# EAGLE library part 78F0893_GAK_AX (library Renesas_78k0_VKarrer)
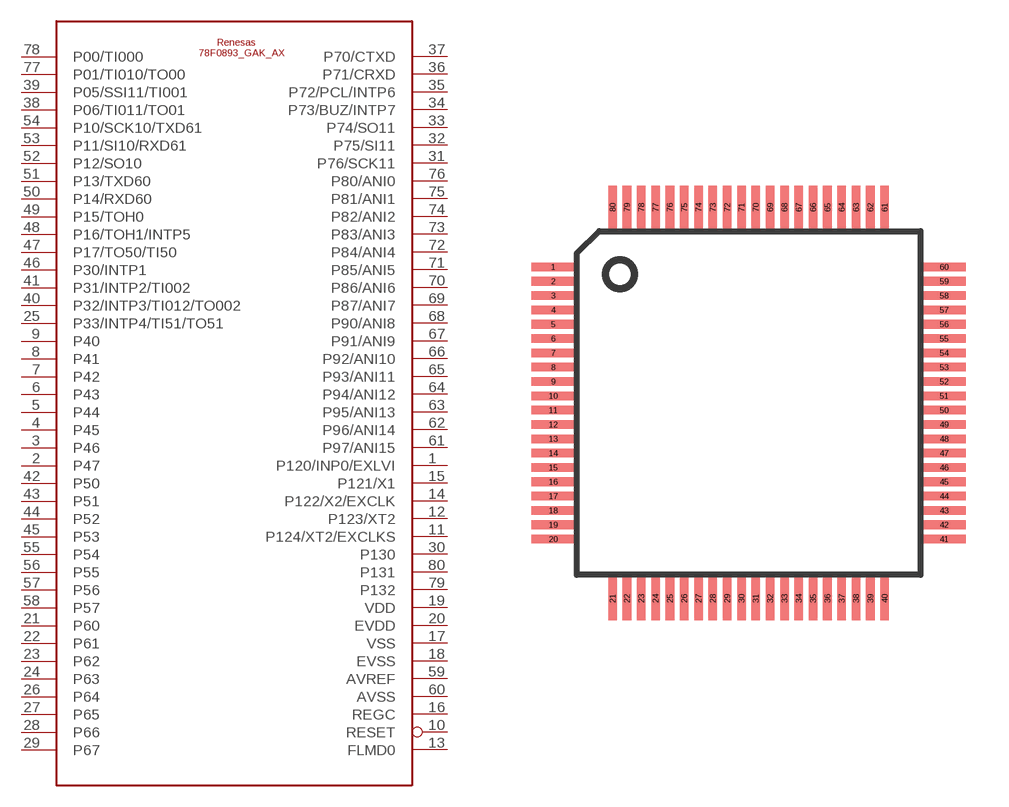
[diagram p0: symbol with the pads of LQFP80; footprint LQFP80]

Designator prefix -

## 78F0893_GAK_AX  [LQFP80]
1  P120/INP0/EXLVI
2  P47
3  P46
4  P45
5  P44
6  P43
7  P42
8  P41
9  P40
10  RESET
11  P124/XT2/EXCLKS
12  P123/XT2
13  FLMD0
14  P122/X2/EXCLK
15  P121/X1
16  REGC
17  VSS  pwr
18  EVSS  pwr
19  VDD  pwr
20  EVDD  pwr
21  P60
22  P61
23  P62
24  P63
25  P33/INTP4/TI51/TO51
26  P64
27  P65
28  P66  in
29  P67
30  P130  out
31  P76/SCK11
32  P75/SI11
33  P74/SO11
34  P73/BUZ/INTP7
35  P72/PCL/INTP6
36  P71/CRXD
37  P70/CTXD
38  P06/TI011/TO01
39  P05/SSI11/TI001
40  P32/INTP3/TI012/TO002
41  P31/INTP2/TI002
42  P50
43  P51
44  P52
45  P53
46  P30/INTP1
47  P17/TO50/TI50
48  P16/TOH1/INTP5
49  P15/TOH0
50  P14/RXD60
51  P13/TXD60
52  P12/SO10
53  P11/SI10/RXD61
54  P10/SCK10/TXD61
55  P54
56  P55
57  P56
58  P57
59  AVREF  pwr
60  AVSS  pwr
61  P97/ANI15
62  P96/ANI14
63  P95/ANI13
64  P94/ANI12
65  P93/ANI11
66  P92/ANI10
67  P91/ANI9
68  P90/ANI8
69  P87/ANI7
70  P86/ANI6
71  P85/ANI5
72  P84/ANI4
73  P83/ANI3
74  P82/ANI2
75  P81/ANI1
76  P80/ANI0
77  P01/TI010/TO00
78  P00/TI000
79  P132
80  P131

## Footprint LQFP80 (pad centres in mm)
LQFP80 - Low Profile Quad Flat Package 12x12x1.4 mm SOT315-1
smd 1.5 x 0.3: 1 -6.825,4.75; 2 -6.825,4.25; 3 -6.825,3.75; 4 -6.825,3.25; 5 -6.825,2.75; 6 -6.825,2.25; 7 -6.825,1.75; 8 -6.825,1.25; 9 -6.825,0.75; 10 -6.825,0.25; 11 -6.825,-0.25; 12 -6.825,-0.75; 13 -6.825,-1.25; 14 -6.825,-1.75; 15 -6.825,-2.25; 16 -6.825,-2.75; 17 -6.825,-3.25; 18 -6.825,-3.75; 19 -6.825,-4.25; 20 -6.825,-4.75; 41 6.825,-4.75; 42 6.825,-4.25; 43 6.825,-3.75; 44 6.825,-3.25; 45 6.825,-2.75; 46 6.825,-2.25; 47 6.825,-1.75; 48 6.825,-1.25; 49 6.825,-0.75; 50 6.825,-0.25; 51 6.825,0.25; 52 6.825,0.75; 53 6.825,1.25; 54 6.825,1.75; 55 6.825,2.25; 56 6.825,2.75; 57 6.825,3.25; 58 6.825,3.75; 59 6.825,4.25; 60 6.825,4.75
smd 0.3 x 1.5: 21 -4.75,-6.825; 22 -4.25,-6.825; 23 -3.75,-6.825; 24 -3.25,-6.825; 25 -2.75,-6.825; 26 -2.25,-6.825; 27 -1.75,-6.825; 28 -1.25,-6.825; 29 -0.75,-6.825; 30 -0.25,-6.825; 31 0.25,-6.825; 32 0.75,-6.825; 33 1.25,-6.825; 34 1.75,-6.825; 35 2.25,-6.825; 36 2.75,-6.825; 37 3.25,-6.825; 38 3.75,-6.825; 39 4.25,-6.825; 40 4.75,-6.825; 61 4.75,6.825; 62 4.25,6.825; 63 3.75,6.825; 64 3.25,6.825; 65 2.75,6.825; 66 2.25,6.825; 67 1.75,6.825; 68 1.25,6.825; 69 0.75,6.825; 70 0.25,6.825; 71 -0.25,6.825; 72 -0.75,6.825; 73 -1.25,6.825; 74 -1.75,6.825; 75 -2.25,6.825; 76 -2.75,6.825; 77 -3.25,6.825; 78 -3.75,6.825; 79 -4.25,6.825; 80 -4.75,6.825